# EAGLE library part FE12-2 (library con-edge-156)
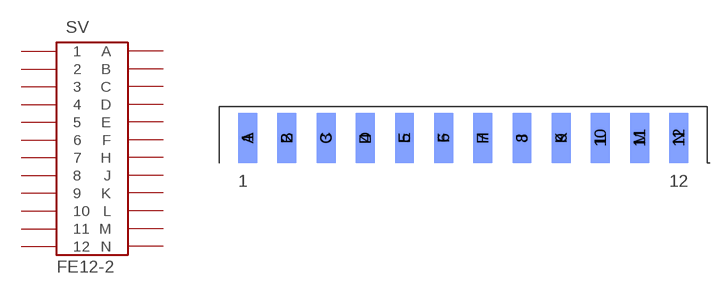
[diagram p5: symbol with the pads of FE12-2_SHORT; footprint FE12-2_SHORT]

Designator prefix SV

## FE12-2E  [FE12-2_SHORT]
1  1  pas
2  2  pas
3  3  pas
4  4  pas
5  5  pas
6  6  pas
7  7  pas
8  8  pas
9  9  pas
10  10  pas
11  11  pas
12  12  pas
A  A  pas
B  B  pas
C  C  pas
D  D  pas
E  E  pas
F  F  pas
H  H  pas
J  J  pas
K  K  pas
L  L  pas
M  M  pas
N  N  pas

## Footprint FE12-2_SHORT (pad centres in mm)
smd 1.905 x 5.08: 1 -21.793,-0.216; 2 -17.831,-0.216; 3 -13.868,-0.216; 4 -9.906,-0.216; 5 -5.944,-0.216; 6 -1.981,-0.216; 7 1.981,-0.216; 8 5.944,-0.216; 9 9.906,-0.216; 10 13.868,-0.216; 11 17.831,-0.216; 12 21.793,-0.216
smd 1.905 x 5.08 bottom: A -21.793,-0.216; B -17.831,-0.216; C -13.868,-0.216; D -9.906,-0.216; E -5.944,-0.216; F -1.981,-0.216; H 1.981,-0.216; J 5.944,-0.216; K 9.906,-0.216; L 13.868,-0.216; M 17.831,-0.216; N 21.793,-0.216